# EAGLE library part POT-BOURNS-PTD902 (library Rebel)
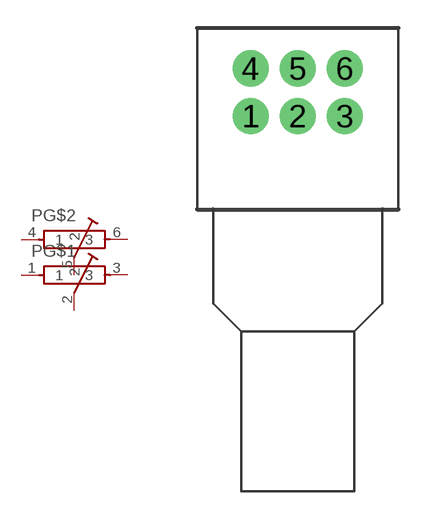
[diagram p22: symbol with the pads of POT-BOURNS-PTD902; footprint POT-BOURNS-PTD902]

Designator prefix P; gates G$1=POT-ALPS-RK09L G$2=POT-ALPS-RK09L

## POT-BOURNS-PTD902  [POT-BOURNS-PTD902]
1  G$1:1
2  G$1:2
3  G$1:3
4  G$2:1
5  G$2:2
6  G$2:3

## Footprint POT-BOURNS-PTD902 (pad centres in mm)
drill 1 pad 1.93: 1 -2.5,-0.036; 2 0,-0.036; 3 2.5,-0.036; 4 -2.5,2.5; 5 0,2.5; 6 2.5,2.5